# EAGLE library part MICROSD (library Connectors)
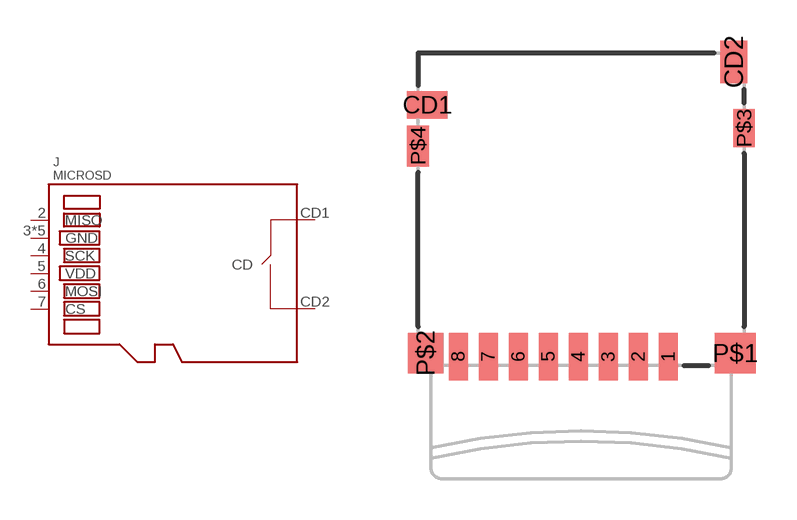
[diagram p12: symbol with the pads of 114-00841-68; footprint 114-00841-68]

Designator prefix J

## MICROSD-PUSH_PULL  [114-00841-68]
2  MISO
3  GND
4  SCK
5  VDD
6  MOSI
7  CS
CD1  CD1
CD2  CD2
P$1  GND
P$2  GND
P$3  GND
P$4  GND

## Footprint 114-00841-68 (pad centres in mm)
Micro SD card slot, Push-In Pull-Out http://www.digikey.com/product-detail/en/114-00841-68/114-00841-68-1-ND/2187101
smd 0.7 x 1.75: 1 3.2,-5.4; 2 2.1,-5.4; 3 1,-5.4; 4 -0.1,-5.4; 5 -1.2,-5.4; 6 -2.3,-5.4; 7 -3.4,-5.4; 8 -4.5,-5.4
smd 1.475 x 1: CD1 -5.638,3.825
smd 1 x 1.55: CD2 5.6,5.4
smd 1.5 x 1.5: P$1 5.65,-5.275
smd 1.3 x 1.5: P$2 -5.7,-5.275
smd 0.8 x 1.4: P$3 5.975,2.975
smd 0.8 x 1.5: P$4 -5.975,2.325